# Altium schematic symbol library Reefing System.SCHLIB: 62 symbols
Pins are listed as number, name and electrical type; pins without a type are passive.

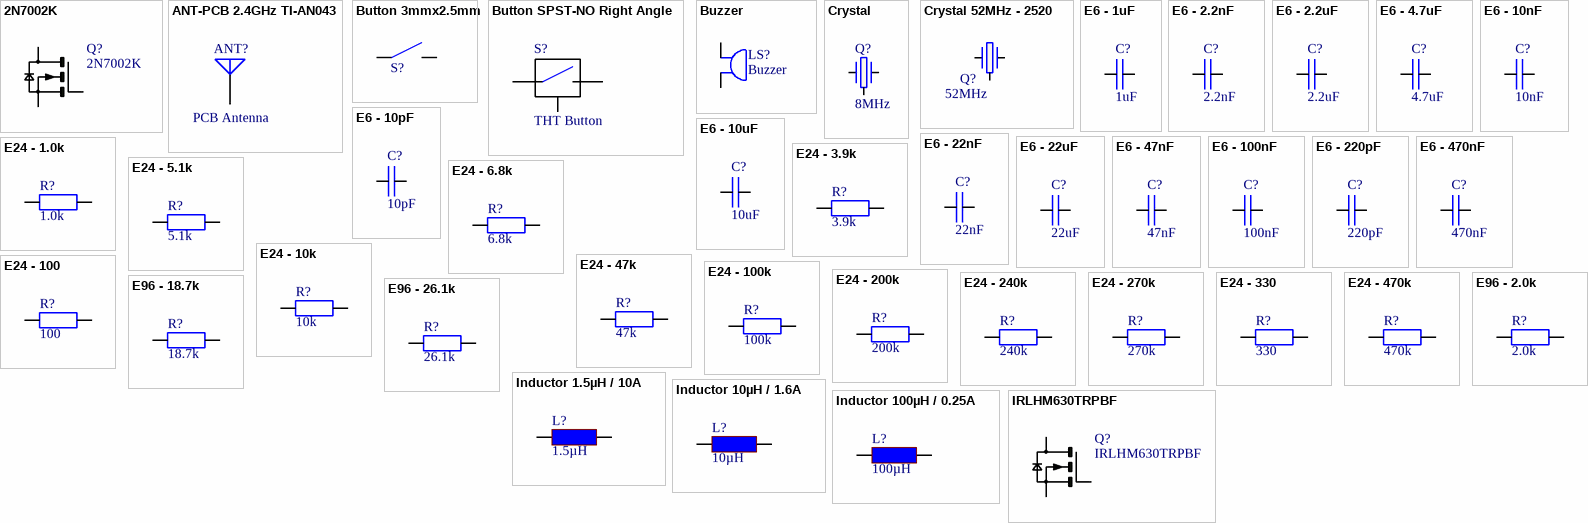
[diagram p0: symbols 2N7002K to IRLHM630TRPBF]

## 2N7002K
designator Q?
MOSFET N-Channel 60V / 500mA; Digikey: 2N7002NCT-ND; ComponentLink1Description: Datasheet; ComponentLink1URL: https://www.onsemi.com/pub/Collateral/NDS7002A-D.PDF; JLC: C414015; Unit Price: 0.32
footprint SMD MOSFET SOT-23
pins: D, G, S
2 alternate drawings of the same symbol

## ANT-PCB 2.4GHz TI-AN043
designator ANT?, comment PCB Antenna
Small Size 2.4 GHz PCB antenna; ComponentLink1Description: Datasheet; ComponentLink1URL: https://www.ti.com/lit/an/swra117d/swra117d.pdf?ts=1645439751186&ref_url=https%253A%252F%252Fwww.google.com%252F; Unit Price: 0.00
footprint SMD Antenna 2.4GHz TI-AN043
pins: 1

## Button 3mmx2.5mm
designator S?, comment SMD-Button  (value not drawn)
Button SPST; Digikey: SW1020TR-ND; JLC: C128937; Unit Price: 0.29
footprint SMD Button 2.5x3x1.2 (SMD_LED_RED)
pins: 1, 2

## Button SPST-NO Right Angle
designator S?, comment THT Button
Tactile Switch SPST-NO Side Actuated Through Hole, Right Angle; ComponentLink1Description: Datasheet; ComponentLink1URL: https://www.te.com/commerce/DocumentDelivery/DDEController?Action=srchrtrv&DocNm=1825027&DocType=Customer+Drawing&DocLang=English; Digikey: A109320-ND; Digikey Alt: 450-1660-ND; Unit Price: 0.35
footprint THT Button Right Angle
pins: 1, 2, 3

## Buzzer
designator LS?
Buzzers Indicator, Internally Driven Piezo 12V 10mA 3kHz 100dB @ 12V, 10cm Through Hole PC Pins; ComponentLink1Description: Datasheet; ComponentLink1URL: https://dbunlimitedco.com/images/product_images/2D-Drawings/IP303012-1.pdf; JLC: C255315; Unit Price: 0.59
footprint THT BUZZER IP303012
footprint SMD BUZZER CMT-8504
pins: 1, 2

## Crystal
designator Q?, comment 8MHz
SMD Crystal Resonators 8MHz ±10ppm SMD,3.2x2.5mm; Digikey: 535-15255-1-ND; JLC: C2682775; Unit Price: 0.24
footprint SMD Crystal 3.2X2.5X0.8 (SMD_LED_RED)
pins: 1, 2, 3 (power)

## Crystal 52MHz - 2520
designator Q?, comment 52MHz
52Mhz Ceramic 2.5 x 2.0mm SMD 10pF 60Ω ±10ppm; JLC: C963550; ComponentLink1Description: Datasheet; ComponentLink1URL: https://datasheet.lcsc.com/lcsc/2012211835_WTL-WTL2M75523TW_C963550.pdf; Unit Price: 0.39
footprint SMD Crystal 2520
pins: 1, 2, 3 (power)

## E6 - 1uF
designator C?, comment 1uF
SMD Ceramic Capacitor E6; Unit Price: 0.01; JLC: C52923
footprint SMD Keramikkondensator 0402
footprint SMD Keramikkondensator 0603
footprint SMD Keramikkondensator 0805
footprint SMD Keramikkondensator 1206
footprint SMD Keramikkondensator 1210 (Chip Resistor; Body 3.2 x 1.6 mm (LxW typ))
footprint SMD Keramikkondensator 1812
footprint SMD Keramikkondensator 2211
footprint SMD Keramikkondensator 2220
footprint SMD Keramikkondesnator 2220
pins: 1, 2
1 alternate drawing of the same symbol

## E6 - 2.2nF
designator C?, comment 2.2nF
SMD Ceramic Capacitor E6; Unit Price: 0.01; JLC: C1531
footprint SMD Keramikkondensator 0402
footprint SMD Keramikkondensator 0603
footprint SMD Keramikkondensator 0805
footprint SMD Keramikkondensator 1206
footprint SMD Keramikkondensator 1210 (Chip Resistor; Body 3.2 x 1.6 mm (LxW typ))
footprint SMD Keramikkondensator 1812
footprint SMD Keramikkondensator 2211
footprint SMD Keramikkondensator 2220
footprint SMD Keramikkondesnator 2220
pins: 1, 2
1 alternate drawing of the same symbol

## E6 - 2.2uF
designator C?, comment 2.2uF
SMD Ceramic Capacitor E6; Unit Price: 0.01; JLC: C193620
footprint SMD Keramikkondensator 0402
footprint SMD Keramikkondensator 0603
footprint SMD Keramikkondensator 0805
footprint SMD Keramikkondensator 1206
footprint SMD Keramikkondensator 1210 (Chip Resistor; Body 3.2 x 1.6 mm (LxW typ))
footprint SMD Keramikkondensator 1812
footprint SMD Keramikkondensator 2211
footprint SMD Keramikkondensator 2220
footprint SMD Keramikkondesnator 2220
pins: 1, 2
1 alternate drawing of the same symbol

## E6 - 4.7uF
designator C?, comment 4.7uF
SMD Ceramic Capacitor E6; Unit Price: 0.01; JLC: C23733
footprint SMD Keramikkondensator 0402
footprint SMD Keramikkondensator 0603
footprint SMD Keramikkondensator 0805
footprint SMD Keramikkondensator 1206
footprint SMD Keramikkondensator 1210 (Chip Resistor; Body 3.2 x 1.6 mm (LxW typ))
footprint SMD Keramikkondensator 1812
footprint SMD Keramikkondensator 2211
footprint SMD Keramikkondensator 2220
footprint SMD Keramikkondesnator 2220
pins: 1, 2
1 alternate drawing of the same symbol

## E6 - 10nF
designator C?, comment 10nF
SMD Ceramic Capacitor E6; Unit Price: 0.01; JLC: C15195
footprint SMD Keramikkondensator 0402
footprint SMD Keramikkondensator 0603
footprint SMD Keramikkondensator 0805
footprint SMD Keramikkondensator 1206
footprint SMD Keramikkondensator 1210 (Chip Resistor; Body 3.2 x 1.6 mm (LxW typ))
footprint SMD Keramikkondensator 1812
footprint SMD Keramikkondensator 2211
footprint SMD Keramikkondensator 2220
footprint SMD Keramikkondesnator 2220
pins: 1, 2
1 alternate drawing of the same symbol

## E6 - 10pF
designator C?, comment 10pF
SMD Ceramic Capacitor E6; Unit Price: 0.01; JLC: C32949
footprint SMD Keramikkondensator 0402
footprint SMD Keramikkondensator 0603
footprint SMD Keramikkondensator 0805
footprint SMD Keramikkondensator 1206
footprint SMD Keramikkondensator 1210 (Chip Resistor; Body 3.2 x 1.6 mm (LxW typ))
footprint SMD Keramikkondensator 1812
footprint SMD Keramikkondensator 2211
footprint SMD Keramikkondensator 2220
footprint SMD Keramikkondesnator 2220
pins: 1, 2
1 alternate drawing of the same symbol

## E6 - 10uF
designator C?, comment 10uF
SMD Ceramic Capacitor E6; Unit Price: 0.01; JLC: C70225
footprint SMD Keramikkondensator 0402
footprint SMD Keramikkondensator 0603
footprint SMD Keramikkondensator 0805
footprint SMD Keramikkondensator 1206
footprint SMD Keramikkondensator 1210 (Chip Resistor; Body 3.2 x 1.6 mm (LxW typ))
footprint SMD Keramikkondensator 1812
footprint SMD Keramikkondensator 2211
footprint SMD Keramikkondensator 2220
footprint SMD Keramikkondesnator 2220
pins: 1, 2
1 alternate drawing of the same symbol

## E6 - 22nF
designator C?, comment 22nF
SMD Ceramic Capacitor E6; Unit Price: 0.01; JLC: C1532
footprint SMD Keramikkondensator 0402
footprint SMD Keramikkondensator 0603
footprint SMD Keramikkondensator 0805
footprint SMD Keramikkondensator 1206
footprint SMD Keramikkondensator 1210 (Chip Resistor; Body 3.2 x 1.6 mm (LxW typ))
footprint SMD Keramikkondensator 1812
footprint SMD Keramikkondensator 2211
footprint SMD Keramikkondensator 2220
footprint SMD Keramikkondesnator 2220
pins: 1, 2
1 alternate drawing of the same symbol

## E6 - 22uF
designator C?, comment 22uF
SMD Ceramic Capacitor E6; Unit Price: 0.01; JLC: C45783
footprint SMD Keramikkondensator 0402
footprint SMD Keramikkondensator 0603
footprint SMD Keramikkondensator 0805
footprint SMD Keramikkondensator 1206
footprint SMD Keramikkondensator 1210 (Chip Resistor; Body 3.2 x 1.6 mm (LxW typ))
footprint SMD Keramikkondensator 1812
footprint SMD Keramikkondensator 2211
footprint SMD Keramikkondensator 2220
footprint SMD Keramikkondesnator 2220
pins: 1, 2
1 alternate drawing of the same symbol

## E6 - 47nF
designator C?, comment 47nF
SMD Ceramic Capacitor E6; Unit Price: 0.01; JLC: C338148
footprint SMD Keramikkondensator 0402
footprint SMD Keramikkondensator 0603
footprint SMD Keramikkondensator 0805
footprint SMD Keramikkondensator 1206
footprint SMD Keramikkondensator 1210 (Chip Resistor; Body 3.2 x 1.6 mm (LxW typ))
footprint SMD Keramikkondensator 1812
footprint SMD Keramikkondensator 2211
footprint SMD Keramikkondensator 2220
footprint SMD Keramikkondesnator 2220
pins: 1, 2
1 alternate drawing of the same symbol

## E6 - 100nF
designator C?, comment 100nF
SMD Ceramic Capacitor E6; Unit Price: 0.01; JLC: C307331
footprint SMD Keramikkondensator 0402
footprint SMD Keramikkondensator 0603
footprint SMD Keramikkondensator 0805
footprint SMD Keramikkondensator 1206
footprint SMD Keramikkondensator 1210 (Chip Resistor; Body 3.2 x 1.6 mm (LxW typ))
footprint SMD Keramikkondensator 1812
footprint SMD Keramikkondensator 2211
footprint SMD Keramikkondensator 2220
footprint SMD Keramikkondesnator 2220
pins: 1, 2
1 alternate drawing of the same symbol

## E6 - 220pF
designator C?, comment 220pF
SMD Ceramic Capacitor E6; Unit Price: 0.01; JLC: C1530
footprint SMD Keramikkondensator 0402
footprint SMD Keramikkondensator 0603
footprint SMD Keramikkondensator 0805
footprint SMD Keramikkondensator 1206
footprint SMD Keramikkondensator 1210 (Chip Resistor; Body 3.2 x 1.6 mm (LxW typ))
footprint SMD Keramikkondensator 1812
footprint SMD Keramikkondensator 2211
footprint SMD Keramikkondensator 2220
footprint SMD Keramikkondesnator 2220
pins: 1, 2
1 alternate drawing of the same symbol

## E6 - 470nF
designator C?, comment 470nF
SMD Ceramic Capacitor E6; Unit Price: 0.01; JLC: C47339
footprint SMD Keramikkondensator 0402
footprint SMD Keramikkondensator 0603
footprint SMD Keramikkondensator 0805
footprint SMD Keramikkondensator 1206
footprint SMD Keramikkondensator 1210 (Chip Resistor; Body 3.2 x 1.6 mm (LxW typ))
footprint SMD Keramikkondensator 1812
footprint SMD Keramikkondensator 2211
footprint SMD Keramikkondensator 2220
footprint SMD Keramikkondesnator 2220
pins: 1, 2
1 alternate drawing of the same symbol

## E24 - 1.0k
designator R?, comment 1.0k
SMD Chip Resistor E24; Unit Price: 0.01; JLC: C11702
footprint SMD Widerstand 0402
footprint SMD Widerstand 0603
footprint SMD Widerstand 0805
footprint SMD Widerstand 1206
pins: 1, 2
1 alternate drawing of the same symbol

## E24 - 3.9k
designator R?, comment 3.9k
SMD Chip Resistor E24; Unit Price: 0.01; JLC: C51721
footprint SMD Widerstand 0402
footprint SMD Widerstand 0603
footprint SMD Widerstand 0805
footprint SMD Widerstand 1206
pins: 1, 2
1 alternate drawing of the same symbol

## E24 - 5.1k
designator R?, comment 5.1k
SMD Chip Resistor E24; Unit Price: 0.01; JLC: C25905
footprint SMD Widerstand 0402
footprint SMD Widerstand 0603
footprint SMD Widerstand 0805
footprint SMD Widerstand 1206
pins: 1, 2
1 alternate drawing of the same symbol

## E24 - 6.8k
designator R?, comment 6.8k
SMD Chip Resistor E24; Unit Price: 0.01; JLC: C25917
footprint SMD Widerstand 0402
footprint SMD Widerstand 0603
footprint SMD Widerstand 0805
footprint SMD Widerstand 1206
pins: 1, 2
1 alternate drawing of the same symbol

## E24 - 10k
designator R?, comment 10k
SMD Chip Resistor E24; Unit Price: 0.01; JLC: C25744
footprint SMD Widerstand 0402
footprint SMD Widerstand 0603
footprint SMD Widerstand 0805
footprint SMD Widerstand 1206
pins: 1, 2
1 alternate drawing of the same symbol

## E24 - 47k
designator R?, comment 47k
SMD Chip Resistor E24; Unit Price: 0.01; JLC: C25792
footprint SMD Widerstand 0402
footprint SMD Widerstand 0603
footprint SMD Widerstand 0805
footprint SMD Widerstand 1206
pins: 1, 2
1 alternate drawing of the same symbol

## E24 - 100
designator R?, comment 100
SMD Chip Resistor E24; Unit Price: 0.01; JLC: C515718
footprint SMD Widerstand 0402
footprint SMD Widerstand 0603
footprint SMD Widerstand 0805
footprint SMD Widerstand 1206
pins: 1, 2
1 alternate drawing of the same symbol

## E24 - 100k
designator R?, comment 100k
SMD Chip Resistor E24; Unit Price: 0.01; JLC: C25741
footprint SMD Widerstand 0402
footprint SMD Widerstand 0603
footprint SMD Widerstand 0805
footprint SMD Widerstand 1206
pins: 1, 2
1 alternate drawing of the same symbol

## E24 - 200k
designator R?, comment 200k
SMD Chip Resistor E24; Unit Price: 0.01; JLC: C25764
footprint SMD Widerstand 0402
footprint SMD Widerstand 0603
footprint SMD Widerstand 0805
footprint SMD Widerstand 1206
pins: 1, 2
1 alternate drawing of the same symbol

## E24 - 240k
designator R?, comment 240k
SMD Chip Resistor E24; Unit Price: 0.01; JLC: C64043
footprint SMD Widerstand 0402
footprint SMD Widerstand 0603
footprint SMD Widerstand 0805
footprint SMD Widerstand 1206
pins: 1, 2
1 alternate drawing of the same symbol

## E24 - 270k
designator R?, comment 270k
SMD Chip Resistor E24; Unit Price: 0.01; JLC: C295974
footprint SMD Widerstand 0402
footprint SMD Widerstand 0603
footprint SMD Widerstand 0805
footprint SMD Widerstand 1206
pins: 1, 2
1 alternate drawing of the same symbol

## E24 - 330
designator R?, comment 330
SMD Chip Resistor E24; Unit Price: 0.01; JLC: C25890
footprint SMD Widerstand 0402
footprint SMD Widerstand 0603
footprint SMD Widerstand 0805
footprint SMD Widerstand 1206
pins: 1, 2
1 alternate drawing of the same symbol

## E24 - 470k
designator R?, comment 470k
SMD Chip Resistor E24; Unit Price: 0.01; JLC: C25790
footprint SMD Widerstand 0402
footprint SMD Widerstand 0603
footprint SMD Widerstand 0805
footprint SMD Widerstand 1206
pins: 1, 2
1 alternate drawing of the same symbol

## E96 - 2.0k
designator R?, comment 2.0k
SMD Chip Resistor E96; Unit Price: 0.01
footprint SMD Widerstand 0402
footprint SMD Widerstand 0603
footprint SMD Widerstand 0805
footprint SMD Widerstand 1206
pins: 1, 2
1 alternate drawing of the same symbol

## E96 - 18.7k
designator R?, comment 18.7k
SMD Chip Resistor E96; Unit Price: 0.01; JLC: C11476
footprint SMD Widerstand 0402
footprint SMD Widerstand 0603
footprint SMD Widerstand 0805
footprint SMD Widerstand 1206
pins: 1, 2
1 alternate drawing of the same symbol

## E96 - 26.1k
designator R?, comment 26.1k
SMD Chip Resistor E96; Unit Price: 0.01; JLC: C407739
footprint SMD Widerstand 0402
footprint SMD Widerstand 0603
footprint SMD Widerstand 0805
footprint SMD Widerstand 1206
pins: 1, 2
1 alternate drawing of the same symbol

## Inductor 1.5µH / 10A
designator L?, comment 1.5µH
8.5mΩ SMD, 7.1x6.6x5mm; ComponentLink1Description: Datasheet; ComponentLink1URL: https://datasheet.lcsc.com/lcsc/2108131730_SXN-Shun-Xiang-Nuo-Elec-SMMS0650-1R5M_C149579.pdf; JLC: C149579; Unit Price: 0.19
footprint SMD Inductor 7.1x6.6
pins: 1, 2

## Inductor 10µH / 1.6A
designator L?, comment 10µH
165mOhm SMD, 1.6A; ComponentLink1Description: Datasheet; ComponentLink1URL: https://datasheet.lcsc.com/lcsc/2108131530_SXN-Shun-Xiang-Nuo-Elec-SMNR4020-10UH_C135263.pdf; JLC: C135263; Unit Price: 0.07
footprint SMD Inductor 4x4x1.8
pins: 1, 2

## Inductor 100µH / 0.25A
designator L?, comment 100µH
0.25A 100µH ±20% 144mΩ SMD Power Inductors; ComponentLink1Description: Datasheet; ComponentLink1URL: https://datasheet.lcsc.com/lcsc/2110081330_Sunlord-SPH252012H3R3MT_C98379.pdf; JLC: C76822; Unit Price: 0.19
footprint SMD Inductor 1812
pins: 1, 2

## IRLHM630TRPBF
designator Q?
N-Channel 30V 21A 3.5mOhm@4.5V; JLC: C148139; ComponentLink1Description: Datasheet; ComponentLink1URL: https://datasheet.lcsc.com/lcsc/1808281623_Infineon-Technologies-IRLHM630TRPBF_C148139.pdf; Unit Price: 0.76
footprint SMD MOSFET DFN 3.3x3.3
pins: D, G, S

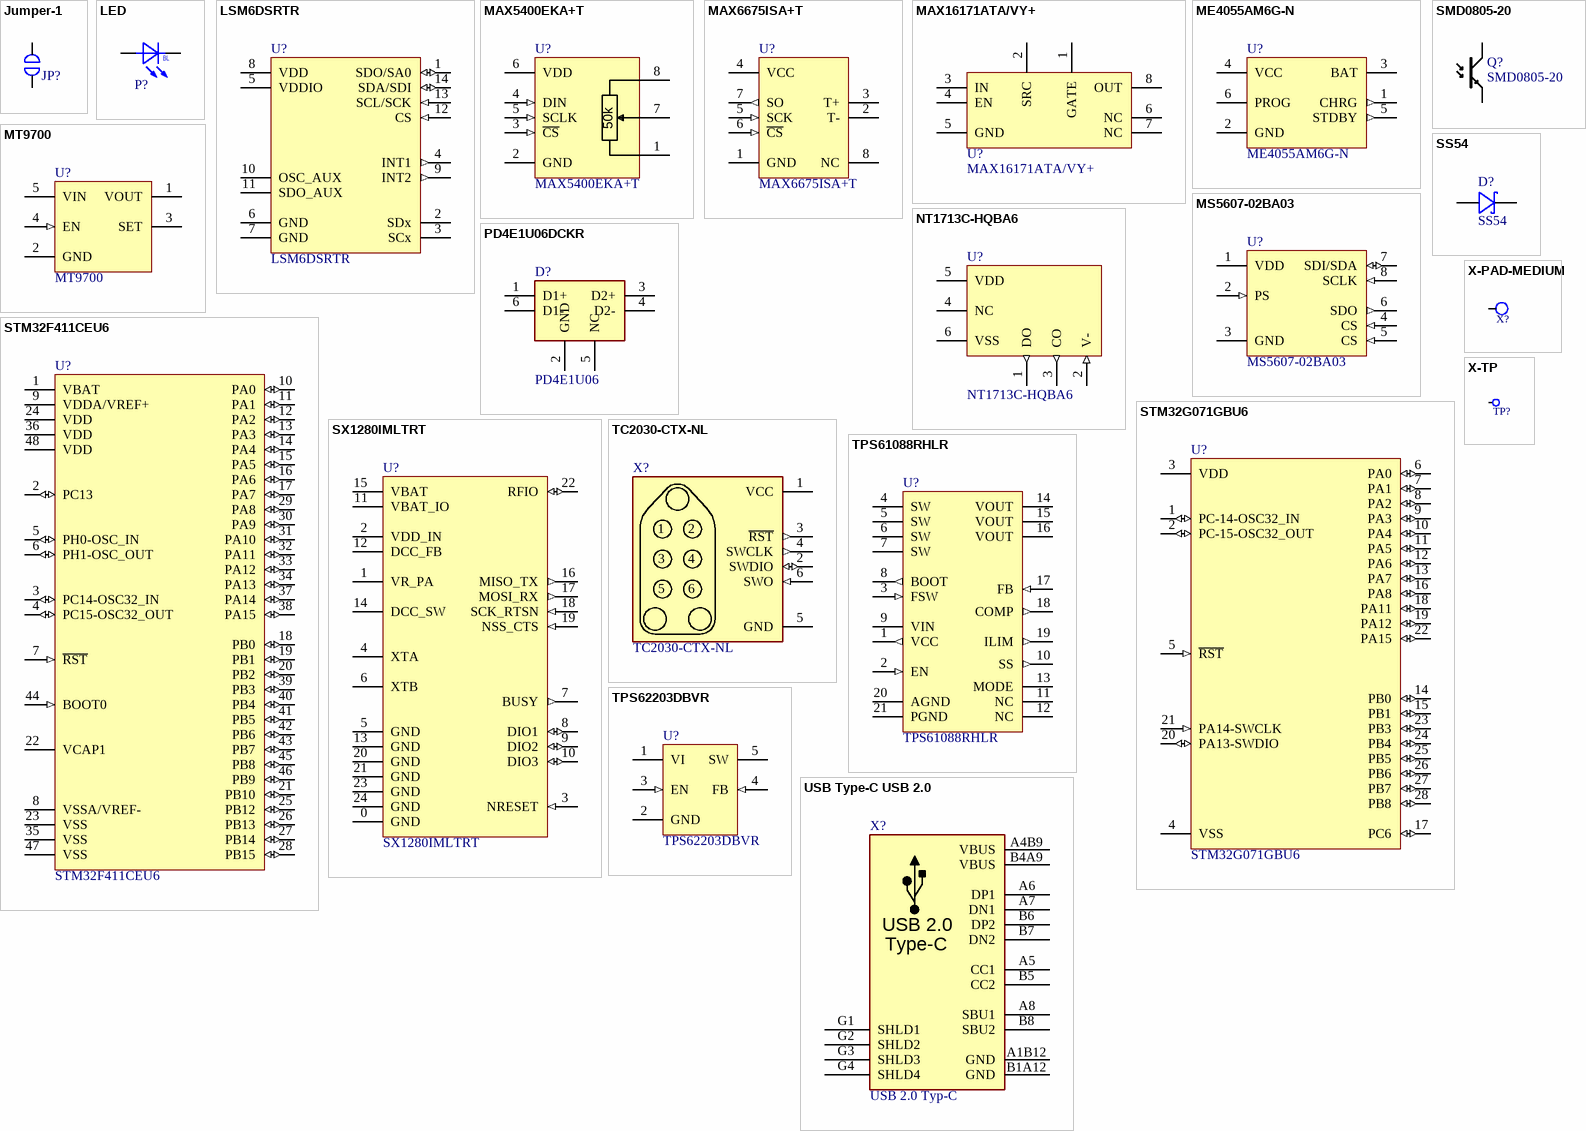
[diagram p1: symbols Jumper-1 to X-TP]

## Jumper-1
designator JP?, comment Jumper  (value not drawn)  (no BOM)
Single Position Jumper; Unit Price: 0.00
footprint THT Jumper
footprint SMD Solder Jumper 1x2mm (SOT-223/SC-73; 4 Leads; Body 6.7 x 7.3 mm, inc. leads (LxW max))
pins: 1, 2

## LED
designator P?  (value not drawn)
Color LED; JLC: C72041
footprint SMD LED 0603 (SMD_LED_RED)
pins: A, K
3 alternate drawings of the same symbol
text: BL

## LSM6DSRTR
designator U?
Accelerometer, Gyroscope, Temperature, 6 Axis Sensor I²C, SPI Output; ComponentLink1Description: Datasheet; ComponentLink1URL: https://datasheet.lcsc.com/lcsc/2201131130_STMicroelectronics-LSM6DSRTR_C784817.pdf; JLC: C784817; Unit Price: 4.88
footprint SMD IC LGA-14
pins: 1 SDO/SA0 (io), 2 SDx, 3 SCx, 4 INT1 (out), 5 VDDIO, 6 GND, 7 GND, 8 VDD, 9 INT2 (out), 10 OSC_AUX, 11 SDO_AUX, 12 CS (in), 13 SCL/SCK (in), 14 SDA/SDI (io)

## MAX5400EKA+T
designator U?
Low-Drift Digital Potentiometer; ComponentLink1Description: Datasheet; ComponentLink1URL: https://datasheet.lcsc.com/lcsc/2105241240_Maxim-Integrated-MAX5400EKA-T_C516784.pdf; JLC: C516784; Unit Price: 1.99
footprint SMD IC SOT-23-8
pins: 1 L, 2 GND, 3 ~{CS} (in), 4 DIN (in), 5 SCLK (in), 6 VDD, 7 W, 8 H
text: 50k

## MAX6675ISA+T
designator U?
Cold-Junction-Compensated K-Thermocoupleto-Digital Converter; ComponentLink1Description: Datasheet; ComponentLink1URL: https://datasheet.lcsc.com/lcsc/1810181421_Maxim-Integrated-MAX6675ISA-T_C16030.pdf; JLC: C16030; Unit Price: 2.95
footprint SMD IC SOIC-8
pins: 1 GND, 2 T-, 3 T+, 4 VCC, 5 SCK (in), 6 ~{CS} (in), 7 SO (out), 8 NC

## MAX16171ATA/VY+
designator U?
OR Controller N+1 ORing Controller N-Channel 1:1 8-TDFN-CU (2x3); ComponentLink1Description: Datasheet; ComponentLink1URL: https://datasheets.maximintegrated.com/en/ds/MAX16171.pdf; Digikey: 175-MAX16171ATA/VY+-ND; Unit Price: 2.14
footprint SMD IC TDFN-8 (QFN, 48-Leads, Body 7x7mm, Pitch 0.5mm, IPC Medium Density)
pins: 1 GATE, 2 SRC, 3 IN, 4 EN, 5 GND, 6 NC, 7 NC, 8 OUT

## ME4055AM6G-N
designator U?
800mA Lithium Ion Battery Linear Charger; ComponentLink1Description: Datasheet; ComponentLink1URL: https://datasheet.lcsc.com/lcsc/1809291612_MICRONE-Nanjing-Micro-One-Elec-ME4055AM6G-N_C82121.pdf; JLC: C82121; Unit Price: 0.10
footprint SMD IC SOT-23-6 (SOT-223/SC-73; 4 Leads; Body 6.7 x 7.3 mm, inc. leads (LxW max))
pins: 1 CHRG (out), 2 GND, 3 BAT, 4 VCC, 5 STDBY (out), 6 PROG

## MS5607-02BA03
designator U?
Barometric Pressure Sensor, with stainless / steel cap; ComponentLink1Description: Datasheet; ComponentLink1URL: https://www.te.com/commerce/DocumentDelivery/DDEController?Action=srchrtrv&DocNm=MS5607-02BA03&DocType=Data+Sheet&DocLang=English; Digikey: 223-1198-1-ND; Unit Price: 5.63
footprint SMD IC BARO MS5607
pins: 1 VDD, 2 PS (in), 3 GND, 4 CS (in), 5 CS (in), 6 SDO (out), 7 SDI/SDA (io), 8 SCLK (in)

## MT9700
designator U?
Power Distribution Switch; ComponentLink1Description: Datasheet; ComponentLink1URL: https://datasheet.lcsc.com/lcsc/1809291208_XI-AN-Aerosemi-Tech-MT9700_C89855.pdf; JLC: C89855; Unit Price: 0.11
footprint SMD IC SOT-23-5
pins: 1 VOUT, 2 GND, 3 SET, 4 EN (in), 5 VIN

## NT1713C-HQBA6
designator U?
Protection IC for 1-Cell Battery Pack; JLC: C596363; ComponentLink1Description: Datasheet; ComponentLink1URL: https://datasheet.lcsc.com/lcsc/2006171818_NEOTEC-NT1713C-HQBA6_C596363.pdf; Unit Price: 0.07
footprint SMD IC SOT-23-6 (SOT-223/SC-73; 4 Leads; Body 6.7 x 7.3 mm, inc. leads (LxW max))
pins: 1 DO (out), 2 V- (in), 3 CO (out), 4 NC, 5 VDD, 6 VSS

## PD4E1U06DCKR
designator D?, comment PD4E1U06
Unidirectional 3A (8/20us) 15V (Typ) 6.5V 5.5V (Max) SOT-363 ESD Protection Devices ROHS; ComponentLink1Description: Datasheet; ComponentLink1URL: https://datasheet.lcsc.com/lcsc/1810172210_Texas-Instruments-TPD4E1U06DCKR_C194628.pdf; Digikey: 296-39347-1-ND; Farnell: 3116516; Mouser: 595-TPD4E1U06DCKR; Unit Price: 0.12; JLC: C194628
footprint SMD IC SOT-363 (SC-70-6)
pins: 1 D1+, 2 GND, 3 D2+, 4 D2-, 5 NC, 6 D1-

## SMD0805-20
designator Q?
Light Sensor; JLC: C250858; ComponentLink1Description: Datasheet; ComponentLink1URL: https://datasheet.lcsc.com/lcsc/1809172049_Senba-Sensing-Tech-SMD0805-20_C250858.pdf; Unit Price: 0.11
footprint SMD LED 0805
pins: A, K

## SS54
designator D?
40V 5A 550mV @ 5A SMA(DO-214AC) Schottky Barrier Diodes (SBD) ROHS; ComponentLink1Description: Datasheet; ComponentLink1URL: https://datasheet.lcsc.com/lcsc/1810192041_MDD%EF%BC%88Microdiode-Electronics%EF%BC%89-SS54_C22452.pdf; JLC: C22452; Unit Price: 0.07
footprint SMD Diode DO-214-AC (SM LED; 2 Flat Leads)
pins: A, K

## STM32F411CEU6
designator U?
ARM® Cortex®-M4 series Microcontroller IC 32-Bit 100MHz 512KB (512K x 8) FLASH 48-UFQFPN (7x7); Digikey: 497-14907-ND; JLC: C60420; ComponentLink1Description: Datasheet; ComponentLink1URL: https://datasheet.lcsc.com/lcsc/1809291612_STMicroelectronics-STM32F411CEU6_C60420.pdf; Unit Price: 7.10
footprint SMD IC QFN-48 (QFN, 48-Leads, Body 7x7mm, Pitch 0.5mm, IPC Medium Density)
pins: 1 VBAT, 2 PC13 (io), 3 PC14-OSC32_IN (io), 4 PC15-OSC32_OUT (io), 5 PH0-OSC_IN (io), 6 PH1-OSC_OUT (io), 7 ~{RST} (in), 8 VSSA/VREF-, 9 VDDA/VREF+, 10 PA0 (io), 11 PA1 (io), 12 PA2 (io), 13 PA3 (io), 14 PA4 (io), 15 PA5 (io), 16 PA6 (io), 17 PA7 (io), 18 PB0 (io), 19 PB1 (io), 20 PB2 (io), 21 PB10 (io), 22 VCAP1, 23 VSS, 24 VDD, 25 PB12 (io), 26 PB13 (io), 27 PB14 (io), 28 PB15 (io), 29 PA8 (io), 30 PA9 (io), 31 PA10 (io), 32 PA11 (io), 33 PA12 (io), 34 PA13 (io), 35 VSS, 36 VDD, 37 PA14 (io), 38 PA15 (io), 39 PB3 (io), 40 PB4 (io), 41 PB5 (io), 42 PB6 (io), 43 PB7 (io), 44 BOOT0 (in), 45 PB8 (io), 46 PB9 (io), 47 VSS, 48 VDD

## STM32G071GBU6
designator U?
ARM® Cortex®-M0+ series Microcontroller IC 32-Bit 64MHz 128KB (128K x 8) FLASH 28-UFQFPN (4x4); Digikey: 497-18343-ND; JLC: C529347; ComponentLink1Description: Datasheet; ComponentLink1URL: https://media.digikey.com/pdf/Data%20Sheets/ST%20Microelectronics%20PDFS/STM32G071_Rev1_DS.pdf; Unit Price: 4.07
footprint SMD IC QFN-28 4x4 0.5 Pitch (QFN, 28-Leads)
pins: 1 PC-14-OSC32_IN (io), 2 PC-15-OSC32_OUT (io), 3 VDD, 4 VSS, 5 ~{RST} (in), 6 PA0 (io), 7 PA1 (io), 8 PA2 (io), 9 PA3 (io), 10 PA4 (io), 11 PA5 (io), 12 PA6 (io), 13 PA7 (io), 14 PB0 (io), 15 PB1 (io), 16 PA8 (io), 17 PC6 (io), 18 PA11 (io), 19 PA12 (io), 20 PA13-SWDIO (io), 21 PA14-SWCLK (in), 22 PA15 (io), 23 PB3 (io), 24 PB4 (io), 25 PB5 (io), 26 PB6 (io), 27 PB7 (io), 28 PB8 (io)

## SX1280IMLTRT
designator U?
Long Range, Low Power, 2.4 GHz / Transceiver with Ranging Capability; ComponentLink1Description: Datasheet; ComponentLink1URL: https://media.digikey.com/pdf/Data%20Sheets/Semtech%20PDFs/SX1280-81_Rev3.2_Mar2020.pdf; Digikey: SX1280IMLTRTCT-ND; JLC: C125969; Unit Price: 3.20
footprint SMD IC QFN-24 (QFN, 24-Leads, Body 4x4mm, Pitch 0.5mm, Thermal Pad 2.68x2.68mm, IPC Medium Density)
pins: 0 GND, 1 VR_PA, 2 VDD_IN, 3 NRESET (in), 4 XTA, 5 GND, 6 XTB, 7 BUSY (out), 8 DIO1 (io), 9 DIO2 (io), 10 DIO3 (io), 11 VBAT_IO, 12 DCC_FB, 13 GND, 14 DCC_SW, 15 VBAT, 16 MISO_TX (out), 17 MOSI_RX (out), 18 SCK_RTSN (in), 19 NSS_CTS (in), 20 GND, 21 GND, 22 RFIO (io), 23 GND, 24 GND

## TC2030-CTX-NL
designator X?  (no BOM)
Tag-Connect for ARM-Cortex (6-Pin); Unit Price: 0.00
footprint SMD Connector TC2030 w/ holes
footprint SMD Connector TC2030
pins: 1 VCC (power), 2 SWDIO (io), 3 ~{RST} (out), 4 SWCLK (out), 5 GND (power), 6 SWO (in)

## TPS61088RHLR
designator U?
10-A Fully-Integrated Synchronous Boost Converter; ComponentLink1Description: Datasheet; ComponentLink1URL: https://www.ti.com/lit/ds/symlink/tps61088.pdf?HQS=dis-mous-null-mousermode-dsf-pf-null-wwe&ts=1645456492039&ref_url=https%253A%252F%252Fwww.mouser.ch%252F; JLC: C87357; Unit Price: 2.57
footprint SMD IC VQFN-20
pins: 1 VCC (out), 2 EN (in), 3 FSW (in), 4 SW, 5 SW, 6 SW, 7 SW, 8 BOOT (out), 9 VIN, 10 SS (out), 11 NC, 12 NC, 13 MODE, 14 VOUT, 15 VOUT, 16 VOUT, 17 FB (in), 18 COMP (out), 19 ILIM (out), 20 AGND, 21 PGND

## TPS62203DBVR
designator U?
High-Efficiency Synchronous Step-Down / synchronous step-down converters ideally suited for Converter 3.3V; ComponentLink1Description: Datasheet; ComponentLink1URL: https://www.ti.com/lit/ds/symlink/tps62203.pdf?HQS=dis-mous-null-mousermode-dsf-pf-null-wwe&ts=1645451444570&ref_url=https%253A%252F%252Fwww.mouser.ch%252F; JLC: C9051; Unit Price: 1.03
footprint SMD IC SOT-23-5
pins: 1 VI, 2 GND, 3 EN (in), 4 FB (in), 5 SW

## USB Type-C USB 2.0
designator X?, comment USB 2.0 Typ-C
Typ-C; Digikey: 2073-USB4105-GF-ACT-ND; Farnell: 3583366; JLC: C167321; Unit Price: 0.36
footprint THT USB-C Socket (A40-00119)
pins: A1B12 GND, A4B9 VBUS, A5 CC1, A6 DP1, A7 DN1, A8 SBU1, B1A12 GND, B4A9 VBUS, B5 CC2, B6 DP2, B7 DN2, B8 SBU2, G1 SHLD1, G2 SHLD2, G3 SHLD3, G4 SHLD4
text: USB 2.0; Type-C

## X-PAD-MEDIUM
designator X?, comment Solder Pad  (value not drawn)  (no BOM)
Medium SMD Pad; Unit Price: 0.00
footprint SMD Solderpad 2.5x1.8
pins: 1

## X-TP
designator TP?  (value not drawn)  (no BOM)
Testpunkt; Unit Price: 0.00
footprint SMD Testpoint 1mm
pins: 1